# Altium schematic symbol library Driver_LED.SchLib: 93 symbols (part 2 of 2)
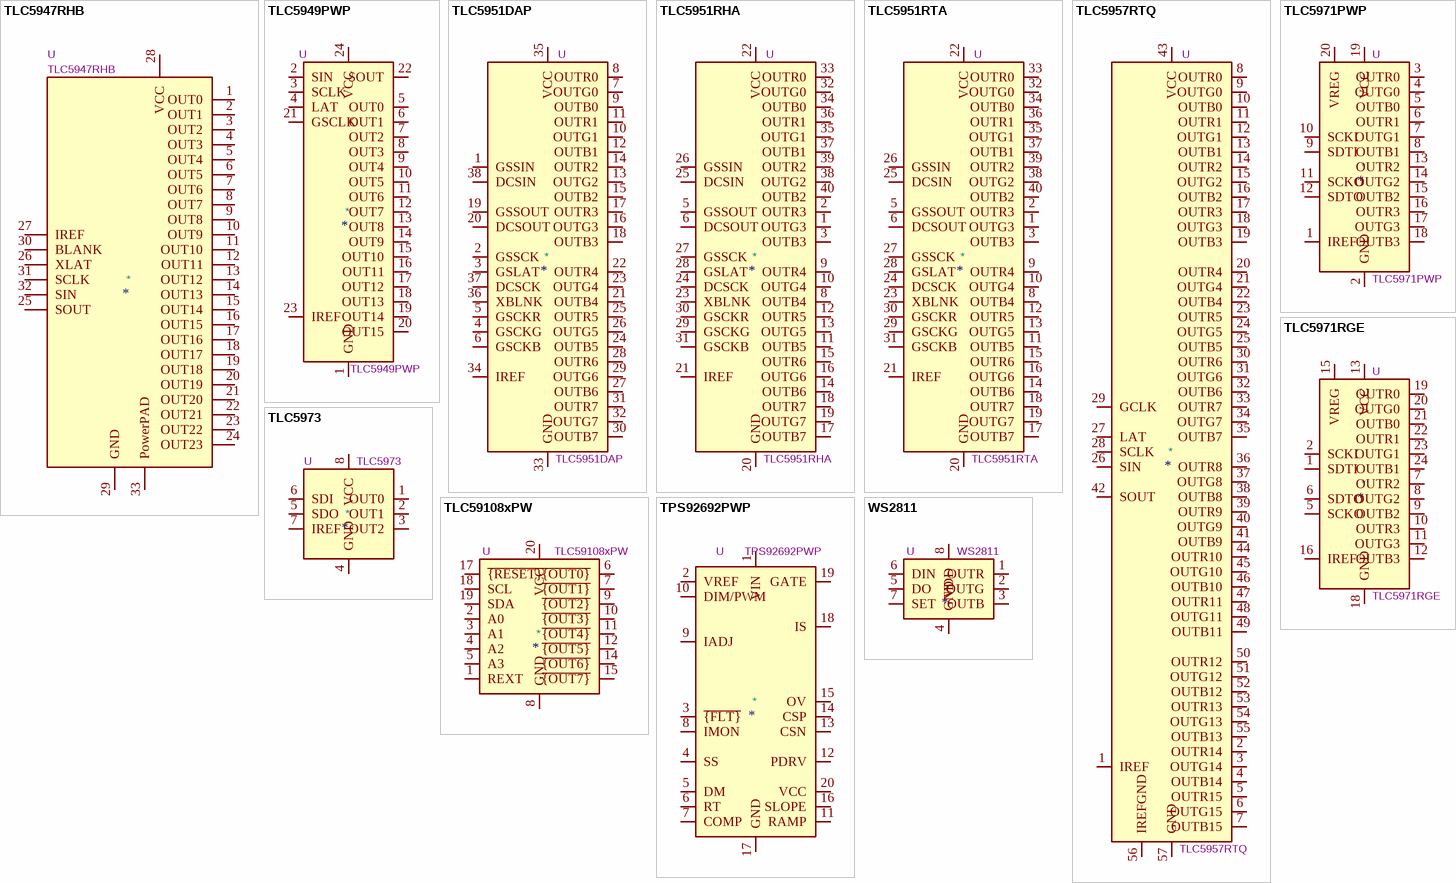
[diagram p4: symbols TLC5947RHB to WS2811]

## TPS92692PWP
designator *  value TPS92692PWP  Reference: U
ki_keywords: LED Driver Buck Boost Sepic Flyback PWM Dimming; ki_description: LED Driver Buck Boost Sepic Flyback, Input 4.5-65V, with PWM Dimming, HTSSOP-20; ki_fp_filters: HTSSOP*1EP*4.4x6.5mm*P0.65mm*; Footprint: Package_SO:HTSSOP-20-1EP_4.4x6.5mm_P0.65mm_EP3.4x6.5mm_Mask2.4x3.7mm; Datasheet: https://www.ti.com/lit/ds/symlink/tps92692-q1.pdf
pins: 1 VIN, 2 VREF, 3 ~{{FLT}}, 4 SS, 5 DM, 6 RT, 7 COMP, 8 IMON, 9 IADJ, 10 DIM/PWM, 11 RAMP, 12 PDRV, 13 CSN, 14 CSP, 15 OV, 16 SLOPE, 17 GND, 18 IS, 19 GATE, 20 VCC, 21 GND hidden

## WS2811
designator *  value WS2811  Reference: U
ki_keywords: PWM LED driver; ki_description: 3-Channel 8-Bit PWM LED Driver, DIP-8/SOIC-8; ki_fp_filters: DIP*W7.62mm* SOIC*3.9x4.9mm*P1.27mm*; Datasheet: https://cdn-shop.adafruit.com/datasheets/WS2811.pdf
pins: 1 OUTR, 2 OUTG, 3 OUTB, 4 GND, 5 DO, 6 DIN, 7 SET, 8 VDD